# EAGLE library part MSP430G2452IN20 (library REEF_LIB)
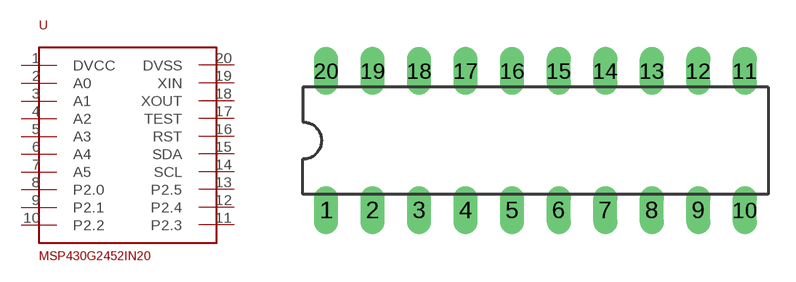
[diagram p3: symbol with the pads of DIL20; footprint DIL20]

Designator prefix -

## MSP430G2452IN20  [DIL20]
1  DVCC
2  A0
3  A1
4  A2
5  A3
6  A4
7  A5
8  P2.0
9  P2.1
10  P2.2
11  P2.3
12  P2.4
13  P2.5
14  SCL
15  SDA
16  RST
17  TEST
18  XOUT
19  XIN
20  DVSS

## Footprint DIL20 (pad centres in mm)
Dual In Line Package
drill 0.813 long: 1 -11.43,-3.81; 2 -8.89,-3.81; 3 -6.35,-3.81; 4 -3.81,-3.81; 5 -1.27,-3.81; 6 1.27,-3.81; 7 3.81,-3.81; 8 6.35,-3.81; 9 8.89,-3.81; 10 11.43,-3.81; 11 11.43,3.81; 12 8.89,3.81; 13 6.35,3.81; 14 3.81,3.81; 15 1.27,3.81; 16 -1.27,3.81; 17 -3.81,3.81; 18 -6.35,3.81; 19 -8.89,3.81; 20 -11.43,3.81